# Altium footprint library Flanery.PcbLib: 125 footprints (part 1 of 8)
Each footprint in its own frame and in the unit in brackets; x right, y up, seen from the top. Pads: shape width x height; smd on the part's side, far side on the other; paste and mask are expansions set on the pad; w line width, h text height; cw(c..) or ccw(c..) is an arc to the next point about the centre after c.
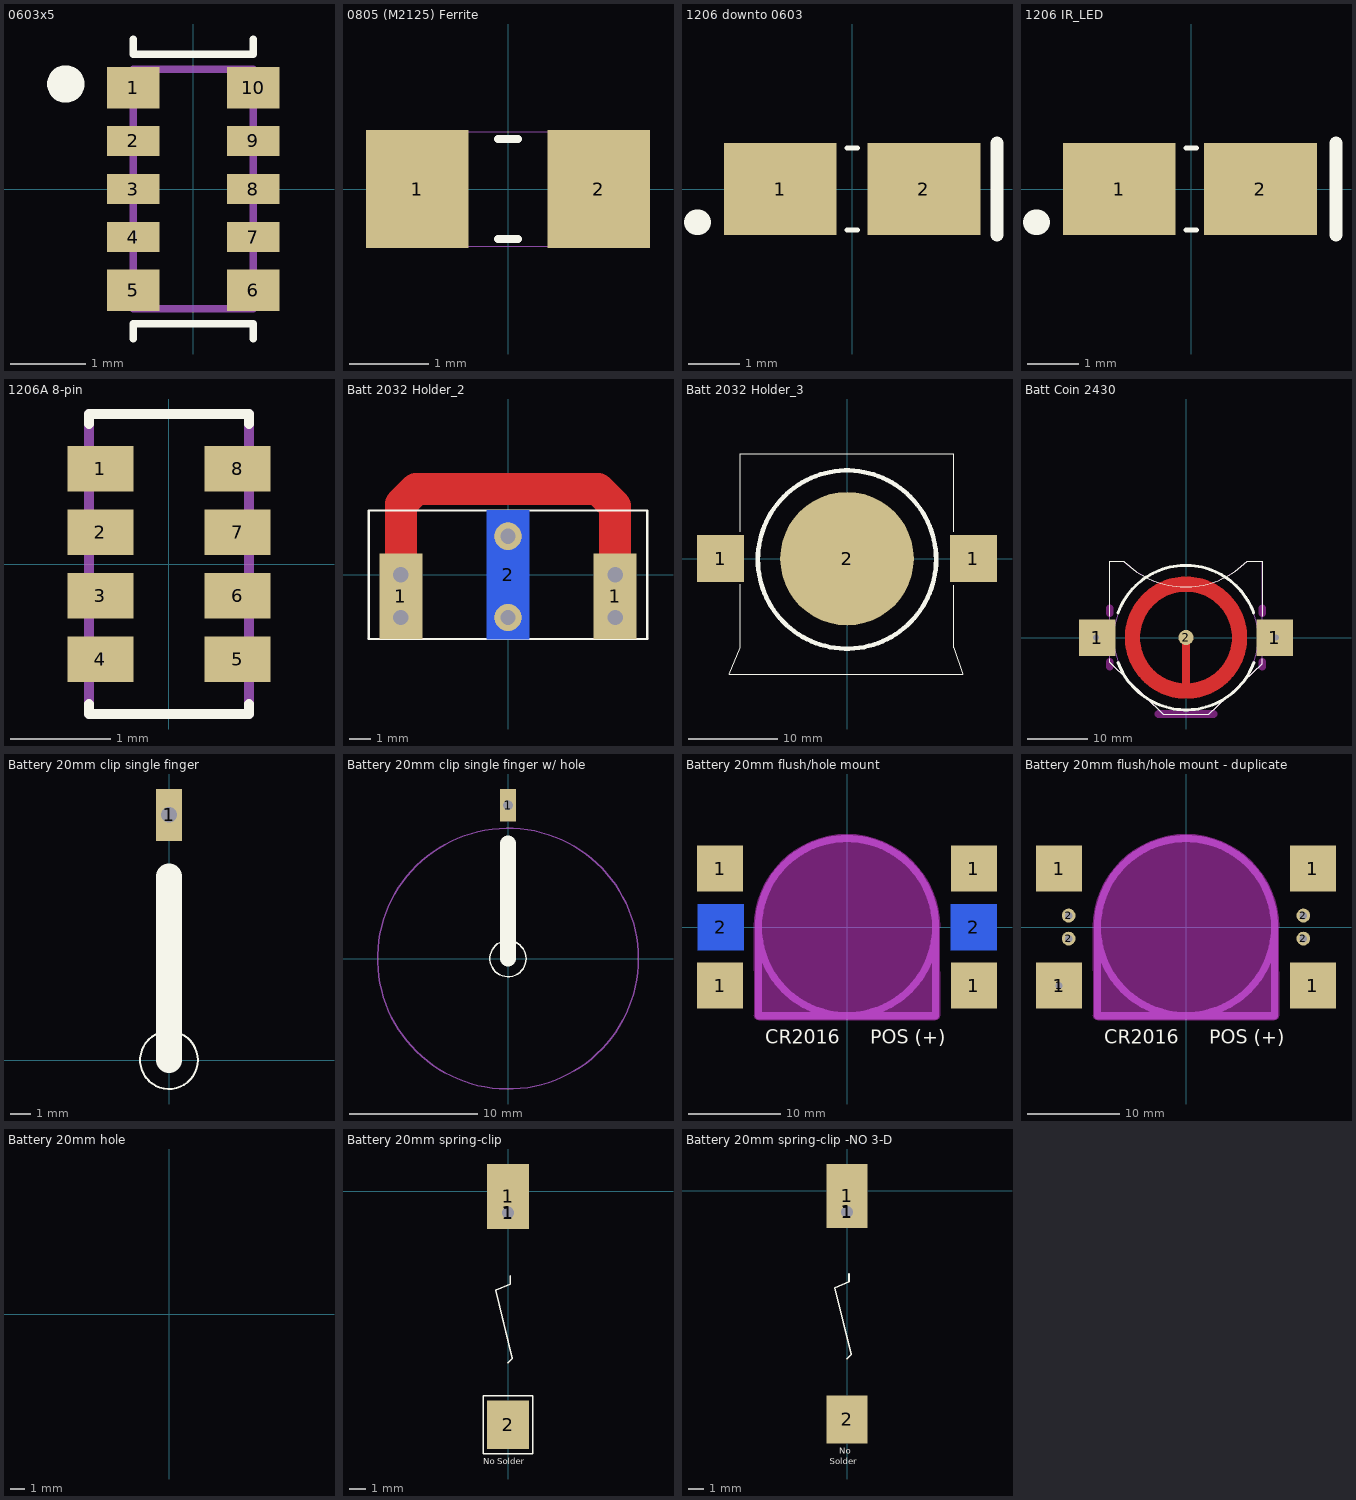
[diagram p0: the footprints below, top view; thin cyan lines are the x and y axes]

## 0603x5 [mm] "Resistor Network"
height 0.5
pads (10):
  rect 0.7x0.55 smd: 1(-0.8,1.35) 5(-0.8,-1.35) 6(0.8,-1.35) 10(0.8,1.35)
  rect 0.7x0.4 smd: 2(-0.8,0.64) 3(-0.8,0) 4(-0.8,-0.64) 7(0.8,-0.64) 8(0.8,0) 9(0.8,0.64)
Top Overlay:
  circle w0.3: c-1.7,1.4 r0.1
  lines w0.1: -0.8,-2 -0.8,-1.8 0.8,-1.8 0.8,-2 ; -0.8,2 -0.8,1.8 0.8,1.8 0.8,2
Mechanical 13:
  lines w0.1: -0.8,-1.6 -0.8,1.6 0.8,1.6 0.8,-1.6 -0.8,-1.6
3D body: height 0.5, standoff 0.1, extent -0.5,-1.6 0.5,1.6
3D body: height 0.4, standoff 0.01, extent -0.8,1.1 -0.4,1.6
3D body: height 0.4, standoff 0.01, extent -0.8,0.5 -0.4,0.8
3D body: height 0.4, standoff 0.01, extent -0.8,-0.138 -0.4,0.162
3D body: height 0.4, standoff 0.01, extent -0.8,-0.775 -0.4,-0.475
3D body: height 0.4, standoff 0.01, extent 0.4,-0.775 0.8,-0.475
3D body: height 0.4, standoff 0.01, extent 0.4,-0.138 0.8,0.162
3D body: height 0.4, standoff 0.01, extent 0.4,0.5 0.8,0.8
3D body: height 0.4, standoff 0.01, extent 0.4,1.1 0.8,1.6
3D body: height 0.4, standoff 0.01, extent 0.4,-1.6 0.8,-1.1
3D body: height 0.4, standoff 0.01, extent -0.8,-1.6 -0.4,-1.1

## 0805 (M2125) Ferrite [mm] "Chip Resistor; Body 2.0 x 1.3 mm (LxW typ)"
height 1
pads (2):
  rect 1.3x1.5 smd: 1(-1.15,0) 2(1.15,0)
Top Overlay:
  lines w0.1: -0.127,-0.635 0.127,-0.635 ; -0.127,0.635 0.127,0.635
Mechanical 15:
  lines w0.01: -1.15,-0.725 -1.15,0.725 1.15,0.725 1.15,-0.725 -1.15,-0.725
3D body: height 0.8, standoff 0.01, extent -0.65,-0.725 0.65,0.725
3D body: height 0.81, standoff 0, extent -1.15,-0.725 -0.65,0.725
3D body: height 0.81, standoff 0, extent 0.65,-0.725 1.15,0.725

## 1206 downto 0603 [mm] "Chip Resistor; Body 3.2 x 1.6 mm (LxW typ)"
height 2.54
pads (2):
  rect 2.2x1.8 smd: 1(-1.4,0) 2(1.4,0)
Top Overlay:
  lines w0.1: -0.1,-0.8 0.1,-0.8 ; -0.1,0.8 0.1,0.8
  lines w0.25: 2.825,-0.9 2.825,0.9
  lines w0.5: -3.025,-0.65 -3,-0.65

## 1206 IR_LED [mm] "Chip Resistor; Body 3.2 x 1.6 mm (LxW typ)"
height 2.54
pads (2):
  rect 2.2x1.8 smd: 1(-1.4,0) 2(1.35,0)
Top Overlay:
  lines w0.1: -0.1,-0.8 0.1,-0.8 ; -0.1,0.8 0.1,0.8
  lines w0.25: 2.825,-0.9 2.825,0.9
  lines w0.5: -3.025,-0.65 -3,-0.65
3D body: height 0.7, standoff 0, extent -0.125,-0.125 0.125,0.125
3D body: height 0.6, standoff 0, extent -1.6,-0.8 1.6,0.8
3D body: height 0.61, standoff 0, extent -1.425,0.45 -1.1,0.725
3D body: height 0.61, standoff 0, extent -1.45,-0.775 -1.125,-0.5
3D body: height 0.62, standoff 0, extent -1,-0.825 1,0.825
3D body: height 1.1, standoff 0, extent -0.95,-0.8 0.95,0.8

## 1206A 8-pin [mm] "Micro IC, 8-pin 1206 size"
height 1
pads (8):
  rect 0.66x0.457 smd: 1(-0.686,0.953) 2(-0.686,0.318) 3(-0.686,-0.318) 4(-0.686,-0.953) 5(0.686,-0.953) 6(0.686,-0.318) 7(0.686,0.318) 8(0.686,0.953)
Top Overlay:
  lines w0.1: -0.8,-1.4 -0.8,-1.5 0.8,-1.5 0.8,-1.4 ; -0.8,1.4 -0.8,1.5 0.8,1.5 0.8,1.4
Mechanical 13:
  lines w0.1: -0.8,-1.5 0.8,-1.5 0.8,1.5 -0.8,1.5 -0.8,-1.5
3D body: height 1, standoff 0.05, extent -0.85,-1.55 0.85,1.55

## Batt 2032 Holder_2 [mm] "Vertical, slide-in, Memory Protection Devices BS-5, possible board-edge mount"
height 25
pads (3):
  rect 2x4 smd paste-2: 1(-5,-1) 1(5,-1)
  rect 2x6 smd far side paste-2: 2(0,0)
via 5,0 diameter 1.27 hole 0.711
via 5,-2 diameter 1.27 hole 0.711
via 0,-2 diameter 1.27 hole 0.711
via -5,0 diameter 1.27 hole 0.711
via -5,-2 diameter 1.27 hole 0.711
via 0,1.8 diameter 1.27 hole 0.711
Top Layer:
  lines w1.5: -5,1 -5,3.3 -4.3,4 4.2,4 5,3.2 5,1 5,0
Top Overlay:
  lines w0.1: -6.5,-3 6.5,-3 6.5,3 -6.5,3 -6.5,-3
Mechanical 13:
  lines w0.1: -6.5,-3 6.5,-3
  text "Board Edge" at -5.7,-2.6 h0.5
  text "Board Edge" at 1.5,-2.6 h0.5

## Batt 2032 Holder_3 [mm] "Glider SMD slide-in with tray MPD BHX1-2032-SM"
height 4.32
pads (3):
  rect 5.3x5.3 smd: 1(-14.2,0) 1(14.2,0)
  round 15 smd: 2(0,0)
Top Overlay:
  circle w0.508: c0,-0.1 r10.012
  lines w0.1: -12,-2.9 -12,-10 -13.2,-13 13,-13 12,-10 12,-3 ; -12,3 -12,11.8 12,11.8 12,3
3D body: height 4.32, standoff 0.1, extent -12.95,-13 12.75,8.5
3D body: height 3.2, standoff 0, extent -10.024,-10.124 10.024,9.924

## Batt Coin 2430 [mil] "SMD holder for coin cell battery, flat onto PCB.  Available 3.0V Lithium or 3.6V rechargable Li-Ion"
height 160
pads (3):
  rect 240x240 smd: 1(-580,0) 1(580,0)
  round 100 smd: 2(0,0)
via 590,0 diameter 60 hole 40
via -590,0 diameter 60 hole 40
Top Layer:
  circle w100: c0,0 r350
  lines w50: 0,-350 0,0
Top Layer keep-out:
  lines w50: -500,-190 -500,-160 ; -500,160 -500,190 ; -180,-500 180,-500 ; 500,-190 500,-160 ; 500,160 500,190
Top Overlay:
  lines w5: -500,-140 -500,-160 -150,-500 150,-500 500,-170 500,-140 ; -500,140 -500,500 -405.01,500 ; -402.51,497.49 ccw(c-2.5,897.5) 400,500 ; 399.88,499.98 499.88,499.98 500,140
  lines w19.68: -445.05,161.58 cw(c-1.1,0) 442.85,161.58 ; -443.95,-162.57 ccw(c0,-0.98) 443.95,-162.57
Top Paste:
  lines w92: -60.78,-344.68 cw(c0,0) -60.78,344.68 ; 60.78,-344.68 ccw(c0,0) 60.78,344.68
Top Solder:
  circle w108: c0,0 r350
Mechanical 1:
  lines w5: -500,-160 -150,-500 150,-500 500,-170 500,500 400,500 320,430 180,360 0,330 -210,370 -340,440 -410,500 -500,500 -500,-160
Mechanical 13:
  circle w5: c0,0 r472.44
3D body: height 115, standoff 0, extent -467.97,-467.97 467.97,467.97
3D body: height 160, standoff 0, extent -500.02,-500.02 500.02,500.02

## Battery 20mm clip single finger [mm] "Single clip for + or - battery connection with allignment silkscreen"
height 2
pads (1):
  rect 1.27x2.54 / inner round 1.016 / far side round 1.27 hole 0.762: 1(0,12)
Top Overlay:
  circle w0.1: c0,0 r1.414
  lines w1.27: 0,0 0,9
3D body: height 1.2, standoff 0, extent -1,11 1,12
3D body: height 1.2, standoff 1, extent -1,-2 1,12

## Battery 20mm clip single finger w/ hole [mm] "Single clip for + or - battery connection with allignment silkscreen"
height 2
pads (1):
  rect 1.27x2.54 / inner round 1.016 / far side round 1.27 hole 0.762: 1(0,12)
Top Overlay:
  circle w0.1: c0,0 r1.414
  lines w1.27: 0,0 0,9
Mechanical 13:
  circle w0.1: c0,0 r10.2
3D body: height 0.8, standoff -2.4, extent -10,-10 9.921,9.961
3D body: height 1.2, standoff 1, extent -1,-2 1,12
3D body: height 1.2, standoff 0, extent -1,11 1,12

## Battery 20mm flush/hole mount [mm] "For 2032 in 62mil PCB, or 2016 in 31mil PCB"
height 0.025
pads (6):
  rect 5x5 smd: 1(-13.8,-6.35) 1(-13.8,6.35) 1(13.8,-6.35) 1(13.8,6.35)
  rect 5x5 smd far side: 2(-13.716,0) 2(13.75,0)
Top Overlay:
  text "POS (+)" at 2.54,-12.7 h1.52
  text "CR2016" at -8.89,-12.7 h1.52
Bottom Overlay:
  text "NEG (-)" at 0,-12.7 h1.52
Keep-Out Layer:
  board cut-out: -10.112,0 -10.063,0.991 -9.918,1.973 -9.677,2.935 -9.342,3.87 -8.918,4.767 -8.408,5.618 -7.817,6.415 -7.15,7.15 -6.415,7.817 -5.618,8.408 -4.767,8.918 -3.87,9.342 -2.935,9.677 -1.973,9.918 -0.991,10.063 0,10.112 0.991,10.063 1.973,9.918 2.935,9.677 3.87,9.342 4.767,8.918 5.618,8.408 6.415,7.817 7.15,7.15 7.817,6.415 8.408,5.618 8.918,4.767 9.342,3.87 9.677,2.935 9.918,1.973 10.063,0.991 10.112,0 10.1,0 10.11,-9.6 10.071,-9.795 9.96,-9.96 9.795,-10.071 9.6,-10.11 9.6,-10.1 -9.6,-10.11 -9.795,-10.071 -9.96,-9.96 -10.071,-9.795 -10.11,-9.6 -10.1,-9.6
Mechanical 3:
  circle w0.787: c0,0 r9.625
  lines w0.787: -9.625,-0.05 -9.625,-9.625 9.625,-9.625 9.625,0
3D body: height 0.85, standoff 0, extent 11.425,-8.25 11.5,-4.25
3D body: height 0.85, standoff 0.8, extent -11.5,-8.25 11.5,-4.25
3D body: height 0.1, standoff 0, extent -16,-2 16,2
3D body: height 0.8, standoff -0.8, extent -9.96,-9.96 9.961,10
3D body: height 0.05, standoff 0, extent 11.5,-8.25 16,-4.25
3D body: height 0.05, standoff 0, extent -16,-8.25 -11.5,-4.25
3D body: height 0.85, standoff 0, extent -11.5,-8.25 -11.425,-4.25
3D body: height 0.85, standoff 0, extent -11.5,4.323 -11.425,8.323
3D body: height 0.05, standoff 0, extent -16,4.323 -11.5,8.323
3D body: height 0.05, standoff 0, extent 11.5,4.323 16,8.323
3D body: height 0.85, standoff 0.8, extent -11.5,4.323 11.5,8.323
3D body: height 0.85, standoff 0, extent 11.425,4.323 11.5,8.323

## Battery 20mm flush/hole mount - duplicate [mm] "For 2032 in 62mil PCB, or 2016 in 31mil PCB"
height 0.025
pads (9):
  rect 5x5 smd: 1(-13.8,-6.35) 1(-13.8,6.35) 1(13.8,-6.35) 1(13.8,6.35)
  rect 5x1.5 / inner round 1 / far side round 1.5 hole 0.813 unplated: 1(-13.8,-6.35)
  round 1.5 / inner round 1 / far side rect 5x1.5 hole 0.813 unplated: 2(-12.75,-1.25) 2(-12.75,1.25) 2(12.75,-1.25) 2(12.75,1.25)
Top Overlay:
  text "CR2016" at -8.89,-12.7 h1.52
  text "POS (+)" at 2.54,-12.7 h1.52
Bottom Overlay:
  text "NEG (-)" at 0,-12.7 h1.52
Keep-Out Layer:
  board cut-out: -10.112,0 -10.063,0.991 -9.918,1.973 -9.677,2.935 -9.342,3.87 -8.918,4.767 -8.408,5.618 -7.817,6.415 -7.15,7.15 -6.415,7.817 -5.618,8.408 -4.767,8.918 -3.87,9.342 -2.935,9.677 -1.973,9.918 -0.991,10.063 0,10.112 0.991,10.063 1.973,9.918 2.935,9.677 3.87,9.342 4.767,8.918 5.618,8.408 6.415,7.817 7.15,7.15 7.817,6.415 8.408,5.618 8.918,4.767 9.342,3.87 9.677,2.935 9.918,1.973 10.063,0.991 10.112,0 10.1,0 10.11,-9.6 10.071,-9.795 9.96,-9.96 9.795,-10.071 9.6,-10.11 9.6,-10.1 -9.6,-10.11 -9.795,-10.071 -9.96,-9.96 -10.071,-9.795 -10.11,-9.6 -10.1,-9.6
Mechanical 3:
  circle w0.787: c0,0 r9.625
  lines w0.787: -9.625,-0.05 -9.625,-9.625 9.625,-9.625 9.625,0
3D body: height 0.8, standoff -0.8, extent -9.96,-9.96 9.961,10
3D body: height 0.1, standoff 0, extent -16,4.5 16,8.5
3D body: height 0.1, standoff 0, extent -16,-8.25 16,-4.25
3D body: height 0.66, standoff 0, extent -15,0.921 15,1.579
3D body: height 0.66, standoff 0, extent -15,-1.579 15,-0.921

## Battery 20mm hole [mm] "just a cut-out hole"
Multi-Layer:
  circle w0.1: c0,0 r10.2

## Battery 20mm spring-clip [mm] "Single clip for + or - battery connection with allignment silkscreen"
height 2
pads (4):
  round 1.27 smd far side paste-0.762: 1(0,-1.346)
  rect 2.6x2 / inner round 1.016 / far side round 1.1 hole 0.762 paste+0: 1(0,-1.335)
  rect 2.6x3.988 smd paste+0 mask+0.102: 1(0,-0.33)
  rect 2.6x3 smd paste-4: 2(0,-14.351)
Top Overlay:
  lines w0.1: 0,-10.541 0.254,-10.287 -0.762,-6.096 0.127,-5.715 0.127,-5.207 ; -1.524,-16.129 -1.524,-12.573 1.524,-12.573 1.524,-16.129 -1.524,-16.129
  text "No Solder" at -1.524,-16.764 h0.38
3D body: height 1.27, standoff 0, extent -1.27,-16.637 1.27,1.637

## Battery 20mm spring-clip -NO 3-D [mm] "No 3D body Single clip for + or - battery connection with allignment silkscreen"
height 2
pads (5):
  round 1.27 smd far side paste-0.762: 1(0,-1.346) 1(0,-1.346)
  rect 2.6x2 / inner round 1.016 / far side round 1.1 hole 0.762 paste+0: 1(0,-1.335)
  rect 2.6x3.988 smd paste+0 mask+0.102: 1(0,-0.33)
  rect 2.6x3 smd paste-4: 2(0,-14.351)
Top Overlay:
  lines w0.1: 0,-10.541 0.254,-10.287 -0.762,-6.096 0.127,-5.715 0.127,-5.207
  text "Solder" at -1.092,-17.145 h0.38
  text "No" at -0.483,-16.51 h0.38

## Battery 2032 model [mm] "Just a 3-D body"
height 2
3D body: height 0.8, standoff -2.4, extent -10,-10 9.921,9.961